# Altium schematic symbol library ESDA6V1-5W6.SchLib: 1 symbol
Pins are listed as number, name and electrical type; pins without a type are passive.

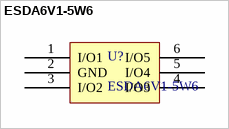
[diagram p0: symbol ESDA6V1-5W6]

## ESDA6V1-5W6
designator U?
pins: 1 I/O1, 2 GND, 3 I/O2, 4 I/O3, 5 I/O4, 6 I/O5